# Altium schematic symbol library ATmega328PU.SchLib: 1 symbol
Pins are listed as number, name and electrical type; pins without a type are passive.

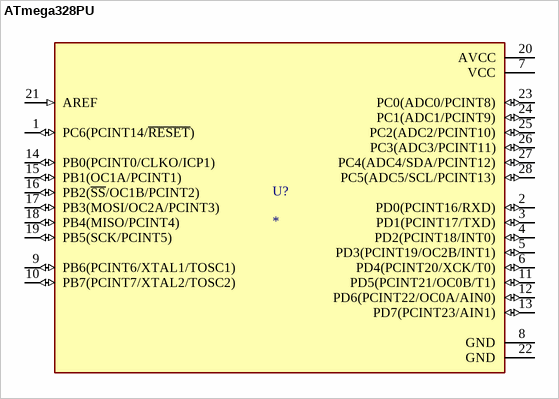
[diagram p0: symbol ATmega328PU]

## ATmega328PU
designator U?
MCU, 8BIT, ATMEGA, 20MHZ, DIP-28; Product Range:AVR ATmega Family ATmega328 Series Microcontrollers; CPU Speed:20MHz; Program Memory Size:32KB; RAM Memory Size:2KB; No. of Pins:28Pins; MCU Case Style:DIP; No. of I/O's:23I/O's; Embedded Interface Type:I2C, SPI, UART; Supply Voltage Min:1.8V; Supply Voltage Max:5.5V; MCU Family:AVR ATmega; MCU Series:ATmega328; Automotive Qualification Standard:-; RoHS Phthalates Compliant:Yes; MSL:-; SVHC:No SVHC (27-Jun-2018); Controller Family/Series:ATmega; EEPROM Memory Size:1KB; MPU Core Size:8bit; No. of PWM Channels:6; No. of Timers:3; Operating Temperature Max:85°C; Operating Temperature Min:-40°C; Operating Temperature Range:-40°C to +85°C; Oscillator Type:External, Internal; Peripherals:ACMP, ADC, POR, PWM, RTC; Program Memory Size:32KB; Supply Voltage Range:1.8V to 5.5V; Manufacturer: Microchip Technology; Pin: 28; Package: PDIP; ComponentLink1Description: Datasheet; ComponentLink1URL: https://ww1.microchip.com/downloads/en/DeviceDoc/ATmega48A-PA-88A-PA-168A-PA-328-P-DS-DS40002061A.pdf
footprint ATmega328PU
pins: 1 PC6(PCINT14/~{RESET}) (io), 2 PD0(PCINT16/RXD) (io), 3 PD1(PCINT17/TXD) (io), 4 PD2(PCINT18/INT0) (io), 5 PD3(PCINT19/OC2B/INT1) (io), 6 PD4(PCINT20/XCK/T0) (io), 7 VCC (power), 8 GND (power), 9 PB6(PCINT6/XTAL1/TOSC1) (io), 10 PB7(PCINT7/XTAL2/TOSC2) (io), 11 PD5(PCINT21/OC0B/T1) (io), 12 PD6(PCINT22/OC0A/AIN0) (io), 13 PD7(PCINT23/AIN1) (io), 14 PB0(PCINT0/CLKO/ICP1) (io), 15 PB1(OC1A/PCINT1) (io), 16 PB2(~{SS}/OC1B/PCINT2) (io), 17 PB3(MOSI/OC2A/PCINT3) (io), 18 PB4(MISO/PCINT4) (io), 19 PB5(SCK/PCINT5) (io), 20 AVCC (power), 21 AREF (in), 22 GND (power), 23 PC0(ADC0/PCINT8) (io), 24 PC1(ADC1/PCINT9) (io), 25 PC2(ADC2/PCINT10) (io), 26 PC3(ADC3/PCINT11) (io), 27 PC4(ADC4/SDA/PCINT12) (io), 28 PC5(ADC5/SCL/PCINT13) (io)